# Altium schematic symbol library PCAD_LAB01.SchLib: 8 symbols
Pins are listed as number, name and electrical type; pins without a type are passive.

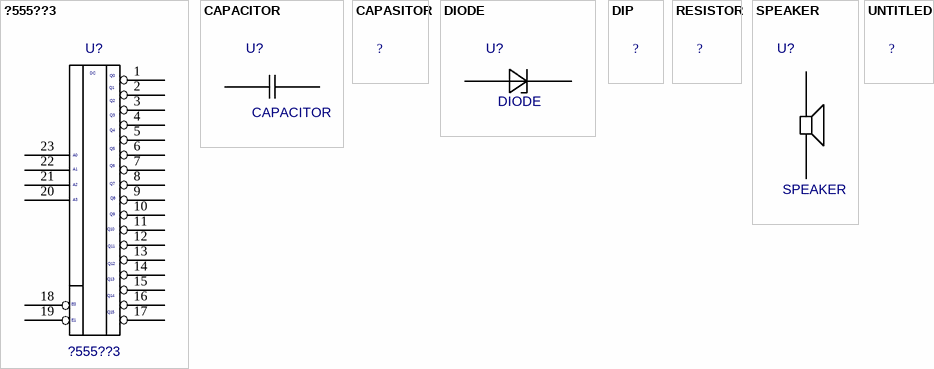
[diagram p0: symbols ?555??3 to UNTITLED]

## ?555??3
designator U?
Value: *
pins: 1, 2, 3, 4, 5, 6, 7, 8, 9, 10, 11, 12, 13, 14, 15, 16, 17, 18, 19, 20, 21, 22, 23
text: DC; Q0; Q1; Q2; Q3; Q4; Q5; A0; A1; Q6; Q7; A2; A3; Q8; Q9; Q10; Q11; Q12; Q13; Q14; E0; Q15; E1

## CAPACITOR
designator U?
Value: *
pins: 1, 2

## CAPASITOR
designator ?  (value not drawn)
Value: *
footprint CAPASITOR

## DIODE
designator U?
Value: *
pins: 1, 2

## DIP
designator ?  (value not drawn)
Value: *
footprint DIP
pins: 1 hidden, 2 hidden, 3 hidden, 4 hidden, 5 hidden, 6 hidden, 7 hidden, 8 hidden, 9 hidden, 10 hidden, 11 hidden, 12 hidden

## RESISTOR
designator ?  (value not drawn)
Value: *
footprint RESISTOR

## SPEAKER
designator U?
Value: *
pins: 1, 2

## UNTITLED
designator ?  (value not drawn)
Value: *
footprint DIP
pins: 1 hidden, 2 hidden, 3 hidden, 4 hidden, 5 hidden, 6 hidden, 7 hidden, 8 hidden, 9 hidden, 10 hidden, 11 hidden, 12 hidden